# Altium schematic symbol library TPS1H000AQDGNRQ1.SCHLIB: 1 symbol
Pins are listed as number, name and electrical type; pins without a type are passive.

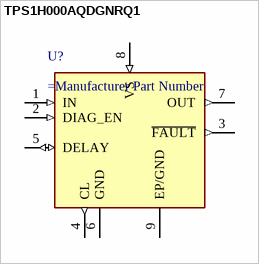
[diagram p0: symbol TPS1H000AQDGNRQ1]

## TPS1H000AQDGNRQ1
designator U?
pins: 1 IN (in), 2 DIAG_EN (in), 3 ~{FAULT} (out), 4 CL (out), 5 DELAY (io), 6 GND, 7 OUT (out), 8 VS (in), 9 EP/GND